# Altium schematic symbol library Connector.SchLib: 3 symbols
Pins are listed as number, name and electrical type; pins without a type are passive.

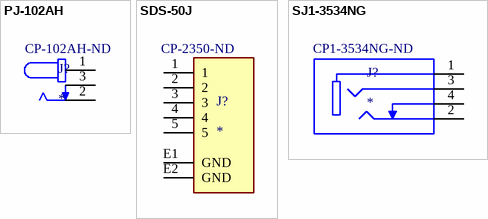
[diagram p0: symbols PJ-102AH to SJ1-3534NG]

## PJ-102AH
designator J?  Supplier Part Number 1: CP-102AH-ND
2.0 x 6.5 mm, 5.0 A, Horizontal, Through Hole, Tapered Pins, Dc Power Jack Connector; MF: CUI Devices; MP: PJ-102AH; Digi-Key_Part_Number: CP-102AH-ND; CUI_purchase_URL: https://www.cuidevices.com/product/interconnect/connectors/dc-power-connectors/jacks/pj-102ah?utm_source=snapeda.com&utm_medium=referral&utm_campaign=snapedaBOM; SnapEDA_Link: https://www.snapeda.com/parts/PJ-102AH/CUI%20Devices/view-part/228264/?ref=snap; Package: None; Value: *; Digi-Key_Purchase_URL: https://www.digikey.com/product-detail/en/cui-devices/PJ-102AH/CP-102AH-ND/408448?utm_source=snapeda&utm_medium=aggregator&utm_campaign=symbol; Supplier 1: Digi-Key
footprint CUI_PJ-102AH
pins: 1, 2, 3

## SDS-50J
designator J?  Supplier Part Number 1: CP-2350-ND
5 Positions, Receptacle, Right Angle, Through Hole, Standard Circular DIN Connector; MP: SDS-50J; Value: *; Package: None; Availability: Unavailable; Price: None; Supplier 1: Digi-Key
footprint CUI_SDS-50J
pins: 1, 2, 3, 4, 5, E1 GND (power), E2 GND (power)

## SJ1-3534NG
designator J?  Supplier Part Number 1: CP1-3534NG-ND
3.5 mm, Stereo, Right Angle, Through Hole, Isolated Ground, Audio Jack Connector; MF: CUI Devices; MP: SJ1-3534NG; SnapEDA_Link: https://www.snapeda.com/parts/SJ1-3534NG/CUI%20Devices/view-part/617954/?ref=snap; Price: None; Package: None; Value: *; Availability: Unavailable; Supplier 1: Digi-Key
footprint CUI_SJ1-3534NG
pins: 1, 2, 3, 4